# EAGLE library part LCD (library lcd)
Newhaven NHD-C12864LZ
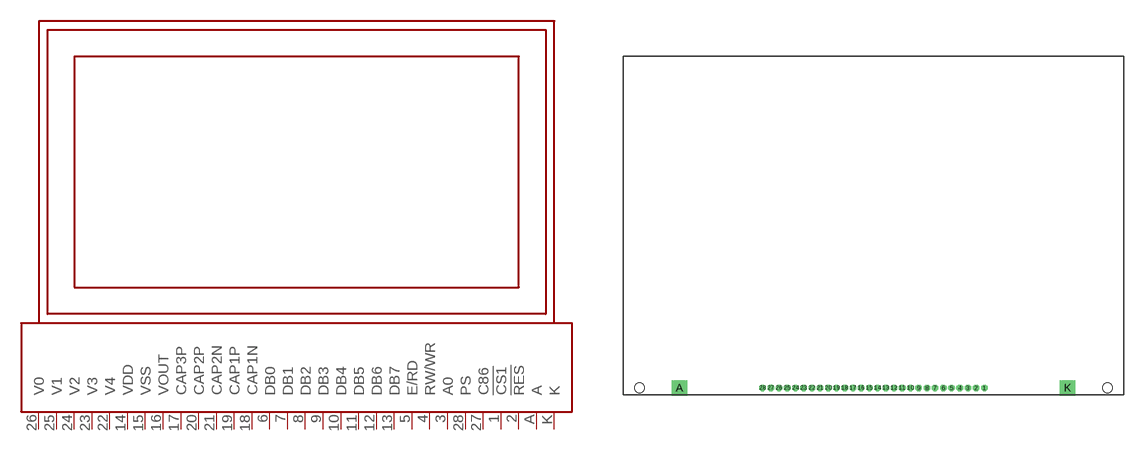
[diagram p0: symbol with the pads of LCD; footprint LCD]

Designator prefix A

## LCD  [LCD]
1  !CS1
2  !RES
3  A0
4  RW/WR
5  E/RD
6  DB0
7  DB1
8  DB2
9  DB3
10  DB4
11  DB5
12  DB6
13  DB7
14  VDD
15  VSS
16  VOUT
17  CAP3P
18  CAP1N
19  CAP1P
20  CAP2P
21  CAP2N
22  V4
23  V3
24  V2
25  V1
26  V0
27  C86
28  PS
A  A
K  K

## Footprint LCD (pad centres in mm)
drill 0.5 octagon: 1 17.145,0; 2 15.875,0; 3 14.605,0; 4 13.335,0; 5 12.065,0; 6 10.795,0; 7 9.525,0; 8 8.255,0; 9 6.985,0; 10 5.715,0; 11 4.445,0; 12 3.175,0; 13 1.905,0; 14 0.635,0; 15 -0.635,0; 16 -1.905,0; 17 -3.175,0; 18 -4.445,0; 19 -5.715,0; 20 -6.985,0; 21 -8.255,0; 22 -9.525,0; 23 -10.795,0; 24 -12.065,0; 25 -13.335,0; 26 -14.605,0; 27 -15.875,0; 28 -17.145,0
drill 1.6 square: A -30,0; K 30,0
hole 1.5 at -36.2,0
hole 1.5 at 36.2,0